# Altium footprint library CF14JA1R00.PcbLib: 1 footprints
Each footprint in its own frame and in the unit in brackets; x right, y up, seen from the top. Pads: shape width x height; smd on the part's side, far side on the other; paste and mask are expansions set on the pad; w line width, h text height; cw(c..) or ccw(c..) is an arc to the next point about the centre after c.
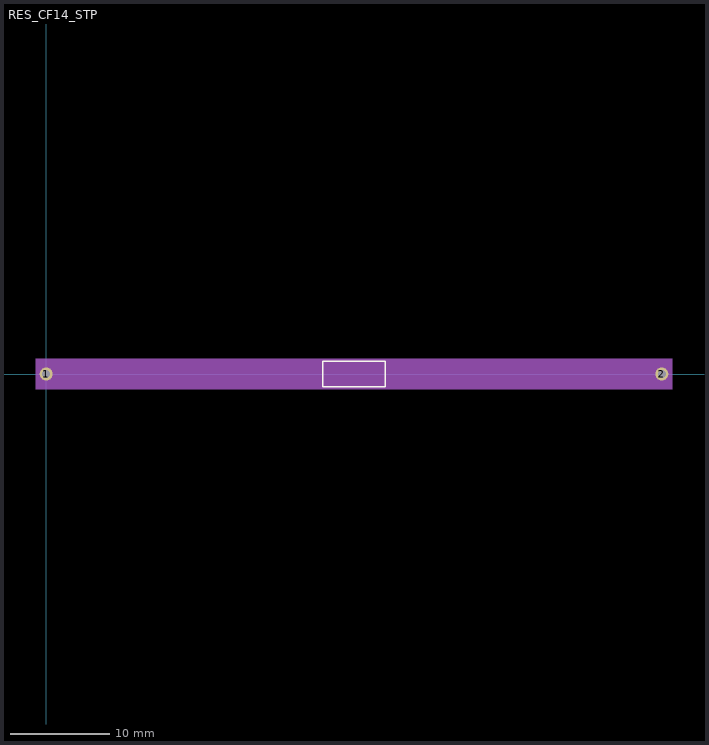
[diagram p0: the footprint, top view; thin cyan lines are the x and y axes]

## RES_CF14_STP [mil]
pads (2):
  round 52 hole 32 mask+0: 1(0,0) 2(2440,0)
Top Overlay:
  lines w6: 1097,-50.5 1343,-50.5 1343,50.5 1097,50.5 1097,-50.5
Mechanical 5:
  region: 2481,-60.5 -41,-60.5 -41,60.5 2481,60.5
Mechanical 13:
  lines w1: 0,0 1102,0 ; 1338,0 2440,0 ; 1102,-45.5 1338,-45.5 1338,45.5 1102,45.5 1102,-45.5
Mechanical 15:
  region: 1092,-36 -36,-36 -36,36 1092,36 1092,55.5 1348,55.5 1348,36 2476,36 2476,-36 1348,-36 1348,-55.5 1092,-55.5
  region: 1338,-45.5 1102,-45.5 1102,45.5 1338,45.5
  lines w6: -36,-36 -36,36 1092,36 1092,55.5 1348,55.5 1348,36 2476,36 2476,-36 1348,-36 1348,-55.5 1092,-55.5 1092,-36 -36,-36
3D body "RES_CF14_STP.step": height 90.65, standoff -100, extent -10.98,-45.41 2450.98,45.41